# Altium schematic symbol library IC-Amplifier.SchLib: 12 symbols
Pins are listed as number, name and electrical type; pins without a type are passive.

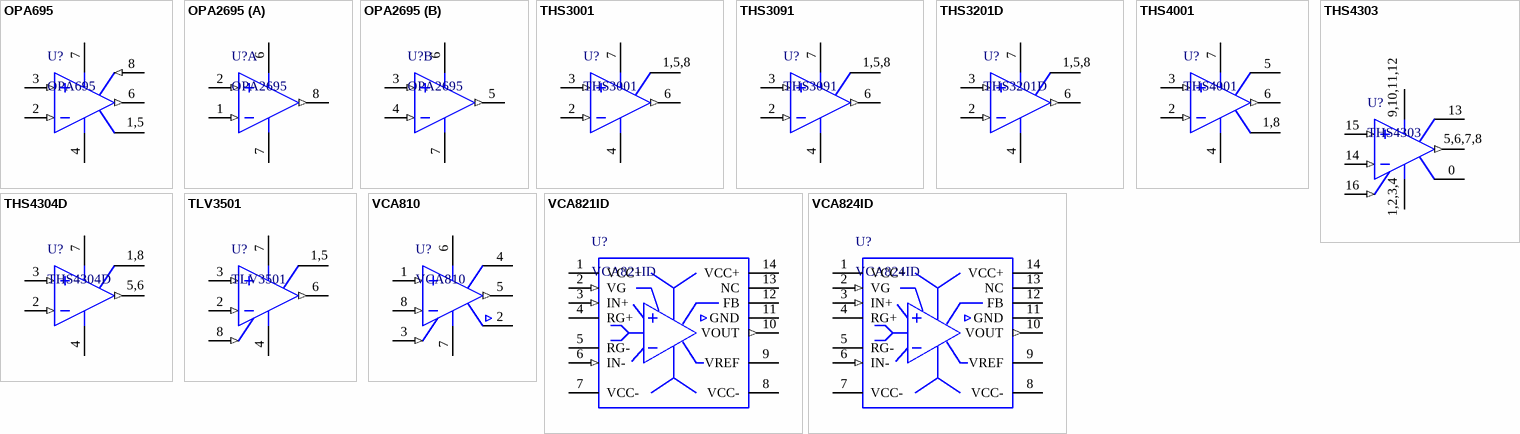
[diagram p0: symbols OPA695 to VCA824ID]

## OPA695
designator U?
TI,Amplifier,Ultra-Wideband, Current-Feedback Operational Amplifier
footprint SOIC-8_150MIL
pins: 1 NC, 2 IN- (in), 3 IN+ (in), 4 VS- (power), 5 NC, 6 VOUT (out), 7 VS+ (power), 8 ~{DIS} (in)
text: 1,5

## OPA2695
designator U?
TI,Amplifier,Dual, Ultra-Wideband, Current-Feedback  OPERATIONAL AMPLIFIER with Disable
footprint SOIC-8_150MIL
pins on every part: 6 VS+ (power), 7 VS- (power)
part A pins: 1 A-IN- (in), 2 A-IN+ (in), 8 A-VOUT (out)
part B pins: 3 B-IN+ (in), 4 B-IN- (in), 5 B-VOUT (out)

## THS3001
designator U?
TI,Amplifier,420-MHz Current-Feedback Amplifier
footprint SOIC-8_150MIL
pins: 1 NC, 2 IN- (in), 3 IN+ (in), 4 VS- (power), 5 NC, 6 VOUT (out), 7 VS+ (power), 8 NC
text: 1,5,8

## THS3091
designator U?
TI,Amplifier,High-voltage, Low-distortion, Current-feedback Operational Amplifiers
footprint SOIC-8_150MIL
pins: 1 NC, 2 IN- (in), 3 IN+ (in), 4 VS- (power), 5 NC, 6 VOUT (out), 7 VS+ (power), 8 NC
text: 1,5,8

## THS3201D
designator U?
TI,Amplifier,1.8-GHz, Low Distortion,Current-Feedback Amplifier
footprint SOIC-8_150MIL
pins: 1 NC, 2 IN- (in), 3 IN+ (in), 4 VS- (power), 5 NC, 6 VOUT (out), 7 VS+ (power), 8 NC
text: 1,5,8

## THS4001
designator U?
TI,Amplifier,270-MHz High-Speed Voltage-Feedback Amplifier
footprint SOIC-8_150MIL
pins: 1 NULL, 2 IN- (in), 3 IN+ (in), 4 VS- (power), 5 NC, 6 VOUT (out), 7 VS+ (power), 8 NULL
text: 1,8

## THS4303
designator U?
TI,Amplifier,1.8GHz WIDEBAND FIXED-GAIN 20dB AMPLIFIER
footprint VQFN-16_3.0x3.0x05P
pins: 0 EP, 1 VS- (power), 2 VS- (power), 3 VS- (power), 4 VS- (power), 5 VOUT (out), 6 VOUT (out), 7 VOUT (out), 8 VOUT (out), 9 VS+ (power), 10 VS+ (power), 11 VS+ (power), 12 VS+ (power), 13 NC, 14 IN- (in), 15 IN+ (in), 16 ~{PD} (in)
text: 9,10,11,12; 5,6,7,8; 1,2,3,4

## THS4304D
designator U?
TI,Amplifier,3-GHz,Wideband Operational Amplifier
footprint SOIC-8_150MIL
pins: 1 NC, 2 IN- (in), 3 IN+ (in), 4 VS- (power), 5 VOUT (out), 6 VOUT (out), 7 VS+ (power), 8 NC
text: 1,8; 5,6

## TLV3501
designator U?
TI,Comparator,4.5-ns, Rail-to-Rail, High-Speed Comparator
footprint SOIC-8_150MIL
pins: 1 NC, 2 IN- (in), 3 IN+ (in), 4 VS- (power), 5 NC, 6 VOUT (out), 7 VS+ (power), 8 SHDN (in)
text: 1,5

## VCA810
designator U?
TI,Amplifier,High Gain Adjust Range, Wideband and Variable Gain Amplifier
footprint SOIC-8_150MIL
pins: 1 IN+ (in), 2 GND, 3 VC (in), 4 NC, 5 OUT (out), 6 VS+ (power), 7 VS- (power), 8 IN- (in)

## VCA821ID
designator U?
TI,Amplifier, Ultra-Wideband, > 40-dB Gain Adjust Range, Linear in dB  Variable Gain Amplifier
footprint SOIC-14_150mil
pins: 1 VCC+ (power), 2 VG (in), 3 IN+ (in), 4 RG+, 5 RG-, 6 IN- (in), 7 VCC- (power), 8 VCC- (power), 9 VREF, 10 VOUT (out), 11 GND, 12 FB, 13 NC, 14 VCC+ (power)

## VCA824ID
designator U?
TI,Amplifier, Wideband 420MHz, >40dB Gain Adjust Range, Linear in V/V Variable Gain Amplifier
footprint SOIC-14_150mil
pins: 1 VCC+ (power), 2 VG (in), 3 IN+ (in), 4 RG+, 5 RG-, 6 IN- (in), 7 VCC- (power), 8 VCC- (power), 9 VREF, 10 VOUT (out), 11 GND, 12 FB, 13 NC, 14 VCC+ (power)